# Altium schematic symbol library Altera.SchLib: 9 symbols (part 3 of 3)
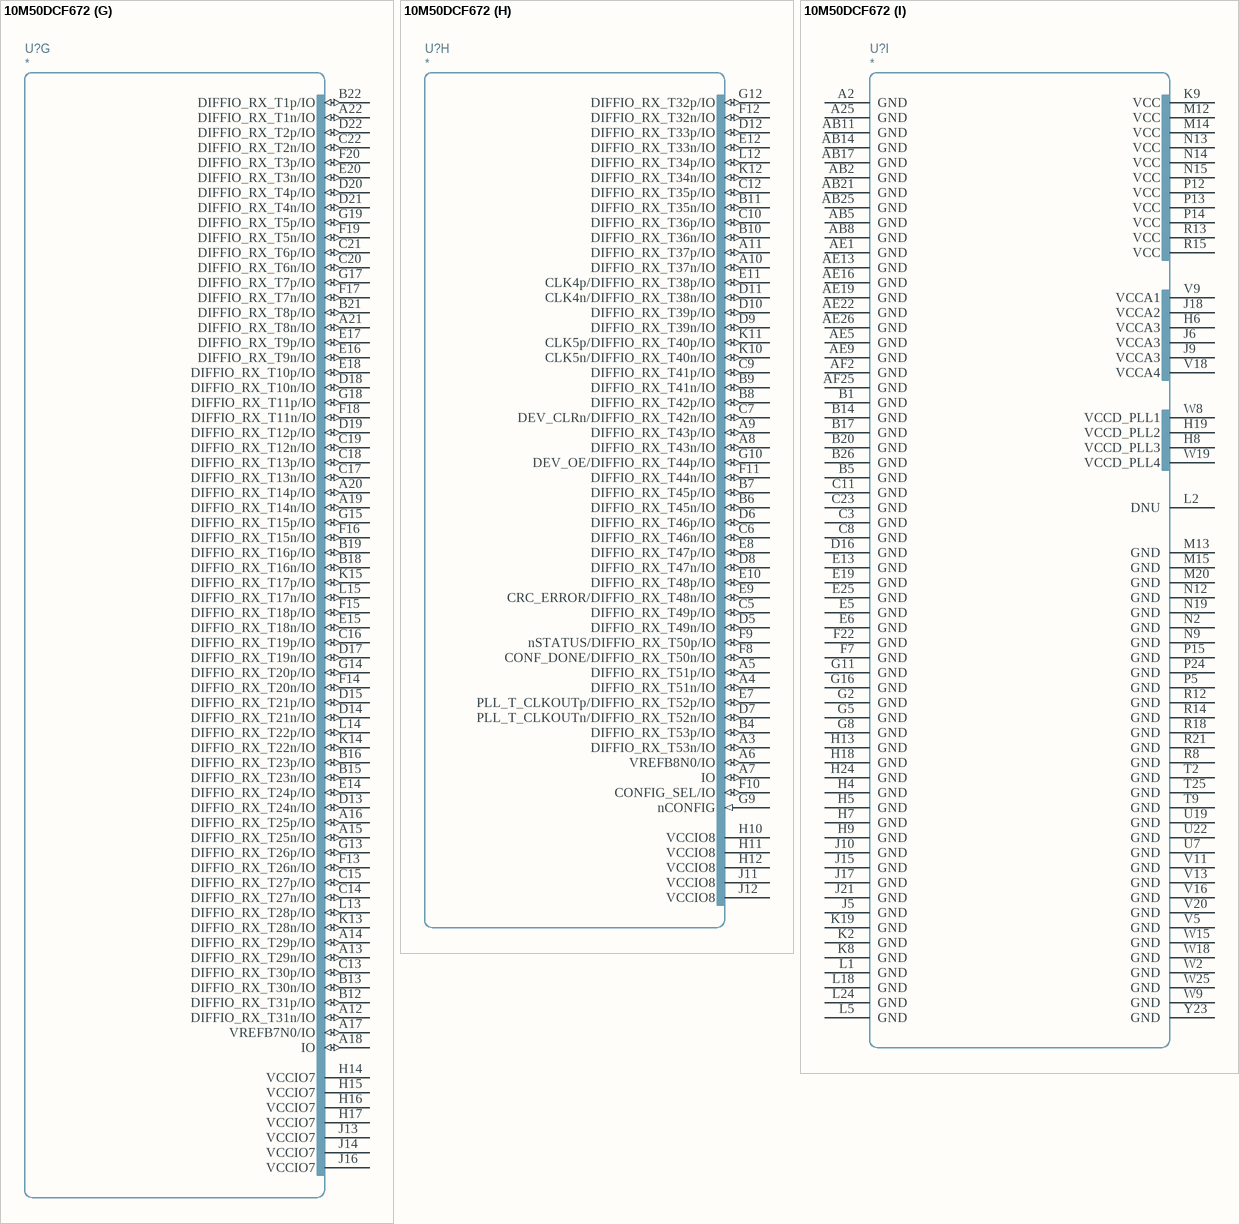
[diagram p15: symbol 10M50DCF672]

## 10M50DCF672
designator U?
part A pins: B2 DIFFIO_RX_L12p/IO (io), B3 DIFFIO_RX_L12n/IO (io), C1 DIFFIO_RX_L19p/IO (io), C2 TMS/DIFFIO_RX_L17n/IO (io), C4 DIFFIO_RX_L10n/IO (io), D1 IO (io), D2 DIFFIO_RX_L19n/IO (io), D3 TCK/DIFFIO_RX_L17p/IO (io), D4 DIFFIO_RX_L10p/IO (io), E1 VREFB1N0/IO (io), E2 DIFFIO_RX_L22n/IO (io), E3 DIFFIO_RX_L11n/IO (io), E4 DIFFIO_RX_L8p/IO (io), F1 DIFFIO_RX_L25p/IO (io), F2 DIFFIO_RX_L22p/IO (io), F3 DIFFIO_RX_L11p/IO (io), F4 DIFFIO_RX_L8n/IO (io), F5 DIFFIO_RX_L6p/IO (io), F6 DIFFIO_RX_L6n/IO (io), G1 DIFFIO_RX_L25n/IO (io), G3 DIFFIO_RX_L5p/IO (io), G4 DIFFIO_RX_L5n/IO (io), G6 DIFFIO_RX_L4p/IO (io), G7 DIFFIO_RX_L4n/IO (io), H1 DIFFIO_RX_L21p/IO (io), H2 DIFFIO_RX_L21n/IO (io), H3 DIFFIO_RX_L14n/IO (io), J1 DIFFIO_RX_L23n/IO (io), J2 DIFFIO_RX_L27n/IO (io), J3 DIFFIO_RX_L27p/IO (io), J4 DIFFIO_RX_L14p/IO (io), J7 DIFFIO_RX_L3n/IO (io), J8 DIFFIO_RX_L3p/IO (io), K1 DIFFIO_RX_L23p/IO (io), K3 DIFFIO_RX_L16n/IO (io), K4 DIFFIO_RX_L7p/IO (io), K5 DIFFIO_RX_L7n/IO (io), K6 DIFFIO_RX_L2n/IO (io), K7 DIFFIO_RX_L1n/IO (io), L3 DIFFIO_RX_L16p/IO (io), L4 DIFFIO_RX_L9p/IO (io), L6 DIFFIO_RX_L2p/IO (io), L7 DIFFIO_RX_L1p/IO (io), L8 VCCIO1A, L9 VCCIO1A, L10 DIFFIO_RX_L15n/IO (io), L11 JTAGEN/DIFFIO_RX_L15p/IO (io), M3 DIFFIO_RX_L24p/IO (io), M4 DIFFIO_RX_L24n/IO (io), M5 DIFFIO_RX_L9n/IO (io), M6 DIFFIO_RX_L13n/IO (io), M7 DIFFIO_RX_L13p/IO (io), M8 VCCIO1B, M9 VCCIO1B, M10 DIFFIO_RX_L20n/IO (io), M11 DIFFIO_RX_L20p/IO (io), N6 TDO/DIFFIO_RX_L18p/IO (io), N7 TDI/DIFFIO_RX_L18n/IO (io), N8 VCCIO1B, N10 DIFFIO_RX_L26n/IO (io), N11 DIFFIO_RX_L26p/IO (io), P8 VCCIO1B
part B pins: AA1 DIFFIO_RX_L49n/IO (io), AA2 DIFFIO_RX_L49p/IO (io), AA3 DIFFIO_RX_L54p/IO (io), AA4 DIFFIO_RX_L51n/IO (io), AA5 DIFFIO_RX_L51p/IO (io), AB1 DIFFIO_RX_L56n/IO (io), AB3 DIFFIO_RX_L60p/IO (io), AB4 DIFFIO_RX_L58p/IO (io), AC1 DIFFIO_RX_L56p/IO (io), AC2 DIFFIO_RX_L60n/IO (io), AC3 DIFFIO_RX_L58n/IO (io), AD1 DIFFIO_RX_L55n/IO (io), AD2 DIFFIO_RX_L55p/IO (io), M1 DIFFIO_RX_L29p/IO (io), M2 DIFFIO_RX_L32n/IO (io), N1 DIFFIO_RX_L29n/IO (io), N3 DIFFIO_RX_L32p/IO (io), N4 DIFFIO_RX_L39p/IO (io), N5 DIFFIO_RX_L39n/IO (io), P1 DIFFIO_RX_L33p/IO (io), P2 DIFFIO_RX_L33n/IO (io), P3 DIFFIO_RX_L35p/IO (io), P4 DIFFIO_RX_L31p/IO (io), P6 CLK0p/DIFFIO_RX_L28p/IO (io), P7 CLK0n/DIFFIO_RX_L28n/IO (io), P9 VCCIO2, P10 DIFFIO_RX_L30p/IO (io), P11 DIFFIO_RX_L30n/IO (io), R1 IO (io), R2 DIFFIO_RX_L37n/IO (io), R3 DIFFIO_RX_L35n/IO (io), R4 DIFFIO_RX_L31n/IO (io), R5 DPCLK1/DIFFIO_RX_L38p/IO (io), R6 DIFFIO_RX_L34n/IO (io), R7 DIFFIO_RX_L34p/IO (io), R9 VCCIO2, R10 CLK1p/DIFFIO_RX_L36p/IO (io), R11 CLK1n/DIFFIO_RX_L36n/IO (io), T1 VREFB2N0/IO (io), T3 DIFFIO_RX_L37p/IO (io), T4 DIFFIO_RX_L45p/IO (io), T5 DIFFIO_RX_L45n/IO (io), T6 DPCLK0/DIFFIO_RX_L38n/IO (io), T7 VCCIO2, T8 VCCIO2, T10 DIFFIO_RX_L41p/IO (io), U1 DIFFIO_RX_L42n/IO (io), U2 DIFFIO_RX_L43n/IO (io), U3 DIFFIO_RX_L40n/IO (io), U4 DIFFIO_RX_L40p/IO (io), U5 DIFFIO_RX_L46p/IO (io), U6 DIFFIO_RX_L46n/IO (io), U8 VCCIO2, U9 VCCIO2, U10 DIFFIO_RX_L41n/IO (io), V1 DIFFIO_RX_L44n/IO (io), V2 DIFFIO_RX_L42p/IO (io), V3 DIFFIO_RX_L43p/IO (io), V4 DIFFIO_RX_L48n/IO (io), V6 DIFFIO_RX_L47p/IO (io), V7 DIFFIO_RX_L47n/IO (io), V8 VCCIO2, W1 DIFFIO_RX_L44p/IO (io), W3 DIFFIO_RX_L48p/IO (io), W4 DIFFIO_RX_L52n/IO (io), W5 DIFFIO_RX_L57p/IO (io), W6 DIFFIO_RX_L53p/IO (io), W7 DIFFIO_RX_L53n/IO (io), Y1 DIFFIO_RX_L50n/IO (io), Y2 DIFFIO_RX_L50p/IO (io), Y3 DIFFIO_RX_L54n/IO (io), Y4 DIFFIO_RX_L52p/IO (io), Y5 DIFFIO_RX_L57n/IO (io), Y6 PLL_L_CLKOUTp/DIFFIO_RX_L59p/IO (io), Y7 PLL_L_CLKOUTn/DIFFIO_RX_L59n/IO (io)
part C pins: AA6 DIFFIO_TX_RX_B3p/IO (io), AA7 DIFFIO_TX_RX_B3n/IO (io), AA8 DIFFIO_TX_RX_B9p/IO (io), AA9 DIFFIO_TX_RX_B9n/IO (io), AA10 DIFFIO_TX_RX_B7p/IO (io), AA11 DIFFIO_TX_RX_B13n/IO (io), AA12 CLK6n/DIFFIO_TX_RX_B18n/IO (io), AB6 DIFFIO_RX_B2n/IO (io), AB7 DIFFIO_TX_RX_B5p/IO (io), AB9 DIFFIO_TX_RX_B16p/IO (io), AB10 DIFFIO_TX_RX_B16n/IO (io), AC4 DIFFIO_RX_B8n/IO (io), AC5 DIFFIO_RX_B2p/IO (io), AC6 DIFFIO_TX_RX_B5n/IO (io), AC7 DIFFIO_RX_B17p/IO (io), AC8 DIFFIO_RX_B17n/IO (io), AC9 DIFFIO_RX_B19p/IO (io), AC10 DIFFIO_TX_RX_B22p/IO (io), AD3 DIFFIO_RX_B4p/IO (io), AD4 DIFFIO_RX_B8p/IO (io), AD5 DIFFIO_RX_B10n/IO (io), AD6 DIFFIO_TX_RX_B11n/IO (io), AD7 DIFFIO_RX_B14n/IO (io), AD8 DIFFIO_RX_B14p/IO (io), AD9 DIFFIO_RX_B19n/IO (io), AD10 DIFFIO_TX_RX_B22n/IO (io), AE2 DIFFIO_RX_B4n/IO (io), AE3 DIFFIO_RX_B6n/IO (io), AE4 DIFFIO_RX_B10p/IO (io), AE6 DIFFIO_TX_RX_B11p/IO (io), AE7 DIFFIO_RX_B21n/IO (io), AE8 DIFFIO_RX_B23n/IO (io), AF3 DIFFIO_RX_B6p/IO (io), AF4 DIFFIO_RX_B12n/IO (io), AF5 DIFFIO_RX_B12p/IO (io), AF6 VREFB3N0/IO (io), AF7 IO (io), AF8 DIFFIO_RX_B21p/IO (io), AF9 DIFFIO_RX_B23p/IO (io), T11 DIFFIO_TX_RX_B15p/IO (io), T12 CLK7p/DIFFIO_TX_RX_B20p/IO (io), U11 DIFFIO_TX_RX_B15n/IO (io), U12 CLK7n/DIFFIO_TX_RX_B20n/IO (io), V10 VCCIO3, V12 VCCIO3, W10 VCCIO3, W11 VCCIO3, W12 VCCIO3, Y8 DIFFIO_TX_RX_B1n/IO (io), Y9 DIFFIO_TX_RX_B1p/IO (io), Y10 DIFFIO_TX_RX_B7n/IO (io), Y11 DIFFIO_TX_RX_B13p/IO (io), Y12 CLK6p/DIFFIO_TX_RX_B18p/IO (io)
part D pins: AA13 DIFFIO_TX_RX_B30n/IO (io), AA14 DIFFIO_TX_RX_B39p/IO (io), AA15 DIFFIO_TX_RX_B45n/IO (io), AA16 DIFFIO_TX_RX_B47n/IO (io), AA17 DIFFIO_TX_RX_B47p/IO (io), AA18 DIFFIO_TX_RX_B41n/IO (io), AB12 DIFFIO_TX_RX_B24n/IO (io), AB13 DIFFIO_TX_RX_B34n/IO (io), AB15 DIFFIO_TX_RX_B45p/IO (io), AB16 DIFFIO_TX_RX_B51n/IO (io), AB18 PLL_B_CLKOUTn/DIFFIO_TX_RX_B57n/IO (io), AB19 PLL_B_CLKOUTp/DIFFIO_TX_RX_B57p/IO (io), AB20 DIFFIO_TX_RX_B55n/IO (io), AC11 DIFFIO_RX_B25p/IO (io), AC12 DIFFIO_TX_RX_B24p/IO (io), AC13 DIFFIO_TX_RX_B34p/IO (io), AC14 DIFFIO_RX_B38p/IO (io), AC15 DIFFIO_RX_B40p/IO (io), AC16 DIFFIO_TX_RX_B51p/IO (io), AC17 DIFFIO_TX_RX_B43p/IO (io), AC18 DIFFIO_RX_B50n/IO (io), AC19 DIFFIO_RX_B50p/IO (io), AC20 DIFFIO_TX_RX_B55p/IO (io), AC21 DIFFIO_RX_B58n/IO (io), AD11 DIFFIO_RX_B25n/IO (io), AD12 DIFFIO_TX_RX_B28p/IO (io), AD13 DIFFIO_TX_RX_B28n/IO (io), AD14 DIFFIO_RX_B38n/IO (io), AD15 DIFFIO_RX_B40n/IO (io), AD16 IO (io), AD17 DIFFIO_TX_RX_B43n/IO (io), AD18 DIFFIO_RX_B46n/IO (io), AD19 DIFFIO_RX_B46p/IO (io), AD20 DIFFIO_RX_B52n/IO (io), AD21 DIFFIO_RX_B52p/IO (io), AD22 DIFFIO_RX_B58p/IO (io), AE10 DIFFIO_RX_B27n/IO (io), AE11 DIFFIO_RX_B29n/IO (io), AE12 DIFFIO_RX_B31n/IO (io), AE14 DIFFIO_RX_B35n/IO (io), AE15 VREFB4N0/IO (io), AE17 DIFFIO_RX_B42p/IO (io), AE18 DIFFIO_RX_B42n/IO (io), AE20 DIFFIO_RX_B48p/IO (io), AE21 DIFFIO_TX_RX_B49p/IO (io), AE23 DIFFIO_RX_B56n/IO (io), AF10 DIFFIO_RX_B27p/IO (io), AF11 DIFFIO_RX_B29p/IO (io), AF12 DIFFIO_RX_B31p/IO (io), AF13 DIFFIO_RX_B33n/IO (io), AF14 DIFFIO_RX_B33p/IO (io), AF15 DIFFIO_RX_B35p/IO (io), AF16 DIFFIO_TX_RX_B37n/IO (io), AF17 DIFFIO_TX_RX_B37p/IO (io), AF18 DIFFIO_RX_B44n/IO (io), AF19 DIFFIO_RX_B44p/IO (io), AF20 DIFFIO_RX_B48n/IO (io), AF21 DIFFIO_TX_RX_B49n/IO (io), AF22 DIFFIO_RX_B54n/IO (io), AF23 DIFFIO_RX_B54p/IO (io), AF24 DIFFIO_RX_B56p/IO (io), T13 DIFFIO_TX_RX_B26p/IO (io), T14 DIFFIO_TX_RX_B32p/IO (io), T15 DIFFIO_TX_RX_B36n/IO (io), U13 DIFFIO_TX_RX_B26n/IO (io), U14 DIFFIO_TX_RX_B32n/IO (io), U15 DIFFIO_TX_RX_B36p/IO (io), V14 VCCIO4, V15 VCCIO4, V17 VCCIO4, W13 VCCIO4, W14 VCCIO4, W16 VCCIO4, W17 VCCIO4, Y13 DIFFIO_TX_RX_B30p/IO (io), Y14 DIFFIO_TX_RX_B39n/IO (io), Y15 VCCIO4, Y16 DIFFIO_TX_RX_B53p/IO (io), Y17 DIFFIO_TX_RX_B53n/IO (io), Y18 DIFFIO_TX_RX_B41p/IO (io)
part E pins: AA19 RUP/DIFFIO_RX_R1p/IO (io), AA20 RDN/DIFFIO_RX_R1n/IO (io), AA21 DIFFIO_RX_R3p/IO (io), AA22 DIFFIO_RX_R10p/IO (io), AA23 DIFFIO_RX_R10n/IO (io), AA24 DIFFIO_RX_R11p/IO (io), AA25 DIFFIO_RX_R18p/IO (io), AA26 DIFFIO_RX_R20p/IO (io), AB22 DIFFIO_RX_R3n/IO (io), AB23 DIFFIO_RX_R8p/IO (io), AB24 DIFFIO_RX_R11n/IO (io), AB26 DIFFIO_RX_R18n/IO (io), AC22 DIFFIO_RX_R4n/IO (io), AC23 DIFFIO_RX_R4p/IO (io), AC24 DIFFIO_RX_R8n/IO (io), AC25 DIFFIO_RX_R14p/IO (io), AC26 DIFFIO_RX_R14n/IO (io), AD23 DIFFIO_RX_R5p/IO (io), AD24 DIFFIO_RX_R5n/IO (io), AD25 DIFFIO_RX_R12p/IO (io), AD26 DIFFIO_RX_R12n/IO (io), AE24 DIFFIO_RX_R6p/IO (io), AE25 DIFFIO_RX_R6n/IO (io), P16 DQ1R/DIFFIO_RX_R30n/IO (io), P17 DQ1R/DIFFIO_RX_R30p/IO (io), P18 VCCIO5, P19 VCCIO5, P20 DQS1R/DIFFIO_RX_R32p/IO (io), P21 DQSn1R/DIFFIO_RX_R32n/IO (io), P22 DQ1R/DIFFIO_RX_R33p/IO (io), P23 DQ1R/DIFFIO_RX_R33n/IO (io), P25 DIFFIO_RX_R34n/IO (io), P26 DIFFIO_RX_R35n/IO (io), R16 DQ1R/DIFFIO_RX_R25p/IO (io), R17 DQ1R/DIFFIO_RX_R25n/IO (io), R19 VCCIO5, R20 DM1R/DIFFIO_RX_R27n/IO (io), R22 DQ1R/DIFFIO_RX_R28p/IO (io), R23 DQ1R/DIFFIO_RX_R28n/IO (io), R24 DIFFIO_RX_R34p/IO (io), R25 DIFFIO_RX_R29n/IO (io), R26 DIFFIO_RX_R35p/IO (io), T16 DQ0R/DIFFIO_RX_R19n/IO (io), T17 DQ0R/DIFFIO_RX_R19p/IO (io), T18 VCCIO5, T19 VCCIO5, T20 DQ1R/DIFFIO_RX_R27p/IO (io), T21 DQS0R/DIFFIO_RX_R21p/IO (io), T22 DQSn0R/DIFFIO_RX_R21n/IO (io), T23 DQ0R/DIFFIO_RX_R22n/IO (io), T24 DIFFIO_RX_R29p/IO (io), T26 DIFFIO_RX_R31n/IO (io), U16 DQ0R/DIFFIO_RX_R13p/IO (io), U17 DQ0R/DIFFIO_RX_R13n/IO (io), U18 VCCIO5, U20 VCCIO5, U21 DM0R/DIFFIO_RX_R15n/IO (io), U23 DQ0R/DIFFIO_RX_R22p/IO (io), U24 DIFFIO_RX_R23p/IO (io), U25 DIFFIO_RX_R23n/IO (io), U26 DIFFIO_RX_R31p/IO (io), V19 VCCIO5, V21 DQ0R/DIFFIO_RX_R15p/IO (io), V22 DQ0R/DIFFIO_RX_R16p/IO (io), V23 DQ0R/DIFFIO_RX_R16n/IO (io), V24 DIFFIO_RX_R26p/IO (io), V25 DIFFIO_RX_R26n/IO (io), V26 VREFB5N0/IO (io), W20 VCCIO5, W21 DIFFIO_RX_R9n/IO (io), W22 DIFFIO_RX_R2n/IO (io), W23 DIFFIO_RX_R17p/IO (io), W24 DIFFIO_RX_R17n/IO (io), W26 IO (io), Y19 DIFFIO_RX_R7p/IO (io), Y20 DIFFIO_RX_R7n/IO (io), Y21 DIFFIO_RX_R9p/IO (io), Y22 DIFFIO_RX_R2p/IO (io), Y24 DIFFIO_RX_R24p/IO (io), Y25 DIFFIO_RX_R24n/IO (io), Y26 DIFFIO_RX_R20n/IO (io)
part F pins: A23 DIFFIO_RX_R68n/IO (io), A24 DIFFIO_RX_R66n/IO (io), B23 DIFFIO_RX_R68p/IO (io), B24 DIFFIO_RX_R66p/IO (io), B25 DIFFIO_RX_R62n/IO (io), C24 DIFFIO_RX_R62p/IO (io), C25 DIFFIO_RX_R54n/IO (io), C26 DIFFIO_RX_R49n/IO (io), D23 CK_6/DIFFIO_RX_R70p/IO (io), D24 DIFFIO_RX_R60p/IO (io), D25 DIFFIO_RX_R54p/IO (io), D26 DIFFIO_RX_R49p/IO (io), E21 PLL_R_CLKOUTn/DIFFIO_RX_R69n/IO (io), E22 PLL_R_CLKOUTp/DIFFIO_RX_R69p/IO (io), E23 CK#_6/DIFFIO_RX_R70n/IO (io), E24 DIFFIO_RX_R60n/IO (io), E26 DIFFIO_RX_R43n/IO (io), F21 DIFFIO_RX_R67n/IO (io), F23 DIFFIO_RX_R59n/IO (io), F24 DIFFIO_RX_R56n/IO (io), F25 IO (io), F26 DIFFIO_RX_R43p/IO (io), G20 DIFFIO_RX_R67p/IO (io), G21 DIFFIO_RX_R65p/IO (io), G22 DIFFIO_RX_R65n/IO (io), G23 DIFFIO_RX_R59p/IO (io), G24 DIFFIO_RX_R56p/IO (io), G25 VREFB6N0/IO (io), G26 DIFFIO_RX_R39n/IO (io), H20 DQ3R/DIFFIO_RX_R63n/IO (io), H21 DQ3R/DIFFIO_RX_R64p/IO (io), H22 DQ3R/DIFFIO_RX_R64n/IO (io), H23 DIFFIO_RX_R53n/IO (io), H25 DIFFIO_RX_R45p/IO (io), H26 DIFFIO_RX_R39p/IO (io), J19 VCCIO6, J20 DQ3R/DIFFIO_RX_R63p/IO (io), J22 DQ3R/DIFFIO_RX_R58n/IO (io), J23 DIFFIO_RX_R53p/IO (io), J24 DIFFIO_RX_R45n/IO (io), J25 DIFFIO_RX_R42n/IO (io), J26 DIFFIO_RX_R37n/IO (io), K16 DQ3R/DIFFIO_RX_R61p/IO (io), K17 DM3R/DIFFIO_RX_R61n/IO (io), K18 VCCIO6, K20 VCCIO6, K21 DQ3R/DIFFIO_RX_R57n/IO (io), K22 DQ3R/DIFFIO_RX_R58p/IO (io), K23 DIFFIO_RX_R48n/IO (io), K24 DIFFIO_RX_R48p/IO (io), K25 DIFFIO_RX_R42p/IO (io), K26 DIFFIO_RX_R37p/IO (io), L16 DQS3R/DIFFIO_RX_R55p/IO (io), L17 DQSn3R/DIFFIO_RX_R55n/IO (io), L19 VCCIO6, L20 VCCIO6, L21 DQ3R/DIFFIO_RX_R57p/IO (io), L22 DQ2R/DIFFIO_RX_R52p/IO (io), L23 DQ2R/DIFFIO_RX_R52n/IO (io), L25 DIFFIO_RX_R41p/IO (io), L26 DIFFIO_RX_R41n/IO (io), M16 DPCLK2/DQSn2R/DIFFIO_RX_R50n/IO (io), M17 DPCLK3/DQS2R/DIFFIO_RX_R50p/IO (io), M18 VCCIO6, M19 VCCIO6, M21 DQ2R/DIFFIO_RX_R51n/IO (io), M22 DQ2R/DIFFIO_RX_R51p/IO (io), M23 DQ2R/DIFFIO_RX_R47n/IO (io), M24 CLK3n/DIFFIO_RX_R40n/IO (io), M25 CLK3p/DIFFIO_RX_R40p/IO (io), M26 DIFFIO_RX_R36n/IO (io), N16 DQ2R/DIFFIO_RX_R44n/IO (io), N17 DQ2R/DIFFIO_RX_R44p/IO (io), N18 VCCIO6, N20 VCCIO6, N21 DQ2R/DIFFIO_RX_R46p/IO (io), N22 DM2R/DIFFIO_RX_R46n/IO (io), N23 DQ2R/DIFFIO_RX_R47p/IO (io), N24 CLK2p/DIFFIO_RX_R38p/IO (io), N25 CLK2n/DIFFIO_RX_R38n/IO (io), N26 DIFFIO_RX_R36p/IO (io)
part G pins: A12 DIFFIO_RX_T31n/IO (io), A13 DIFFIO_RX_T29n/IO (io), A14 DIFFIO_RX_T29p/IO (io), A15 DIFFIO_RX_T25n/IO (io), A16 DIFFIO_RX_T25p/IO (io), A17 VREFB7N0/IO (io), A18 IO (io), A19 DIFFIO_RX_T14n/IO (io), A20 DIFFIO_RX_T14p/IO (io), A21 DIFFIO_RX_T8n/IO (io), A22 DIFFIO_RX_T1n/IO (io), B12 DIFFIO_RX_T31p/IO (io), B13 DIFFIO_RX_T30n/IO (io), B15 DIFFIO_RX_T23n/IO (io), B16 DIFFIO_RX_T23p/IO (io), B18 DIFFIO_RX_T16n/IO (io), B19 DIFFIO_RX_T16p/IO (io), B21 DIFFIO_RX_T8p/IO (io), B22 DIFFIO_RX_T1p/IO (io), C13 DIFFIO_RX_T30p/IO (io), C14 DIFFIO_RX_T27n/IO (io), C15 DIFFIO_RX_T27p/IO (io), C16 DIFFIO_RX_T19p/IO (io), C17 DIFFIO_RX_T13n/IO (io), C18 DIFFIO_RX_T13p/IO (io), C19 DIFFIO_RX_T12n/IO (io), C20 DIFFIO_RX_T6n/IO (io), C21 DIFFIO_RX_T6p/IO (io), C22 DIFFIO_RX_T2n/IO (io), D13 DIFFIO_RX_T24n/IO (io), D14 DIFFIO_RX_T21n/IO (io), D15 DIFFIO_RX_T21p/IO (io), D17 DIFFIO_RX_T19n/IO (io), D18 DIFFIO_RX_T10n/IO (io), D19 DIFFIO_RX_T12p/IO (io), D20 DIFFIO_RX_T4p/IO (io), D21 DIFFIO_RX_T4n/IO (io), D22 DIFFIO_RX_T2p/IO (io), E14 DIFFIO_RX_T24p/IO (io), E15 DIFFIO_RX_T18n/IO (io), E16 DIFFIO_RX_T9n/IO (io), E17 DIFFIO_RX_T9p/IO (io), E18 DIFFIO_RX_T10p/IO (io), E20 DIFFIO_RX_T3n/IO (io), F13 DIFFIO_RX_T26n/IO (io), F14 DIFFIO_RX_T20n/IO (io), F15 DIFFIO_RX_T18p/IO (io), F16 DIFFIO_RX_T15n/IO (io), F17 DIFFIO_RX_T7n/IO (io), F18 DIFFIO_RX_T11n/IO (io), F19 DIFFIO_RX_T5n/IO (io), F20 DIFFIO_RX_T3p/IO (io), G13 DIFFIO_RX_T26p/IO (io), G14 DIFFIO_RX_T20p/IO (io), G15 DIFFIO_RX_T15p/IO (io), G17 DIFFIO_RX_T7p/IO (io), G18 DIFFIO_RX_T11p/IO (io), G19 DIFFIO_RX_T5p/IO (io), H14 VCCIO7, H15 VCCIO7, H16 VCCIO7, H17 VCCIO7, J13 VCCIO7, J14 VCCIO7, J16 VCCIO7, K13 DIFFIO_RX_T28n/IO (io), K14 DIFFIO_RX_T22n/IO (io), K15 DIFFIO_RX_T17p/IO (io), L13 DIFFIO_RX_T28p/IO (io), L14 DIFFIO_RX_T22p/IO (io), L15 DIFFIO_RX_T17n/IO (io)
part H pins: A3 DIFFIO_RX_T53n/IO (io), A4 DIFFIO_RX_T51n/IO (io), A5 DIFFIO_RX_T51p/IO (io), A6 VREFB8N0/IO (io), A7 IO (io), A8 DIFFIO_RX_T43n/IO (io), A9 DIFFIO_RX_T43p/IO (io), A10 DIFFIO_RX_T37n/IO (io), A11 DIFFIO_RX_T37p/IO (io), B4 DIFFIO_RX_T53p/IO (io), B6 DIFFIO_RX_T45n/IO (io), B7 DIFFIO_RX_T45p/IO (io), B8 DIFFIO_RX_T42p/IO (io), B9 DIFFIO_RX_T41n/IO (io), B10 DIFFIO_RX_T36n/IO (io), B11 DIFFIO_RX_T35n/IO (io), C5 DIFFIO_RX_T49p/IO (io), C6 DIFFIO_RX_T46n/IO (io), C7 DEV_CLRn/DIFFIO_RX_T42n/IO (io), C9 DIFFIO_RX_T41p/IO (io), C10 DIFFIO_RX_T36p/IO (io), C12 DIFFIO_RX_T35p/IO (io), D5 DIFFIO_RX_T49n/IO (io), D6 DIFFIO_RX_T46p/IO (io), D7 PLL_T_CLKOUTn/DIFFIO_RX_T52n/IO (io), D8 DIFFIO_RX_T47n/IO (io), D9 DIFFIO_RX_T39n/IO (io), D10 DIFFIO_RX_T39p/IO (io), D11 CLK4n/DIFFIO_RX_T38n/IO (io), D12 DIFFIO_RX_T33p/IO (io), E7 PLL_T_CLKOUTp/DIFFIO_RX_T52p/IO (io), E8 DIFFIO_RX_T47p/IO (io), E9 CRC_ERROR/DIFFIO_RX_T48n/IO (io), E10 DIFFIO_RX_T48p/IO (io), E11 CLK4p/DIFFIO_RX_T38p/IO (io), E12 DIFFIO_RX_T33n/IO (io), F8 CONF_DONE/DIFFIO_RX_T50n/IO (io), F9 nSTATUS/DIFFIO_RX_T50p/IO (io), F10 CONFIG_SEL/IO (io), F11 DIFFIO_RX_T44n/IO (io), F12 DIFFIO_RX_T32n/IO (io), G9 nCONFIG (in), G10 DEV_OE/DIFFIO_RX_T44p/IO (io), G12 DIFFIO_RX_T32p/IO (io), H10 VCCIO8, H11 VCCIO8, H12 VCCIO8, J11 VCCIO8, J12 VCCIO8, K10 CLK5n/DIFFIO_RX_T40n/IO (io), K11 CLK5p/DIFFIO_RX_T40p/IO (io), K12 DIFFIO_RX_T34n/IO (io), L12 DIFFIO_RX_T34p/IO (io)
part I pins: A2 GND, A25 GND, AB2 GND, AB5 GND, AB8 GND, AB11 GND, AB14 GND, AB17 GND, AB21 GND, AB25 GND, AE1 GND, AE5 GND, AE9 GND, AE13 GND, AE16 GND, AE19 GND, AE22 GND, AE26 GND, AF2 GND, AF25 GND, B1 GND, B5 GND, B14 GND, B17 GND, B20 GND, B26 GND, C3 GND, C8 GND, C11 GND, C23 GND, D16 GND, E5 GND, E6 GND, E13 GND, E19 GND, E25 GND, F7 GND, F22 GND, G2 GND, G5 GND, G8 GND, G11 GND, G16 GND, H4 GND, H5 GND, H6 VCCA3, H7 GND, H8 VCCD_PLL3, H9 GND, H13 GND, H18 GND, H19 VCCD_PLL2, H24 GND, J5 GND, J6 VCCA3, J9 VCCA3, J10 GND, J15 GND, J17 GND, J18 VCCA2, J21 GND, K2 GND, K8 GND, K9 VCC, K19 GND, L1 GND, L2 DNU, L5 GND, L18 GND, L24 GND, M12 VCC, M13 GND, M14 VCC, M15 GND, M20 GND, N2 GND, N9 GND, N12 GND, N13 VCC, N14 VCC, N15 VCC, N19 GND, P5 GND, P12 VCC, P13 VCC, P14 VCC, P15 GND, P24 GND, R8 GND, R12 GND, R13 VCC, R14 GND, R15 VCC, R18 GND, R21 GND, T2 GND, T9 GND, T25 GND, U7 GND, U19 GND, U22 GND, V5 GND, V9 VCCA1, V11 GND, V13 GND, V16 GND, V18 VCCA4, V20 GND, W2 GND, W8 VCCD_PLL1, W9 GND, W15 GND, W18 GND, W19 VCCD_PLL4, W25 GND, Y23 GND

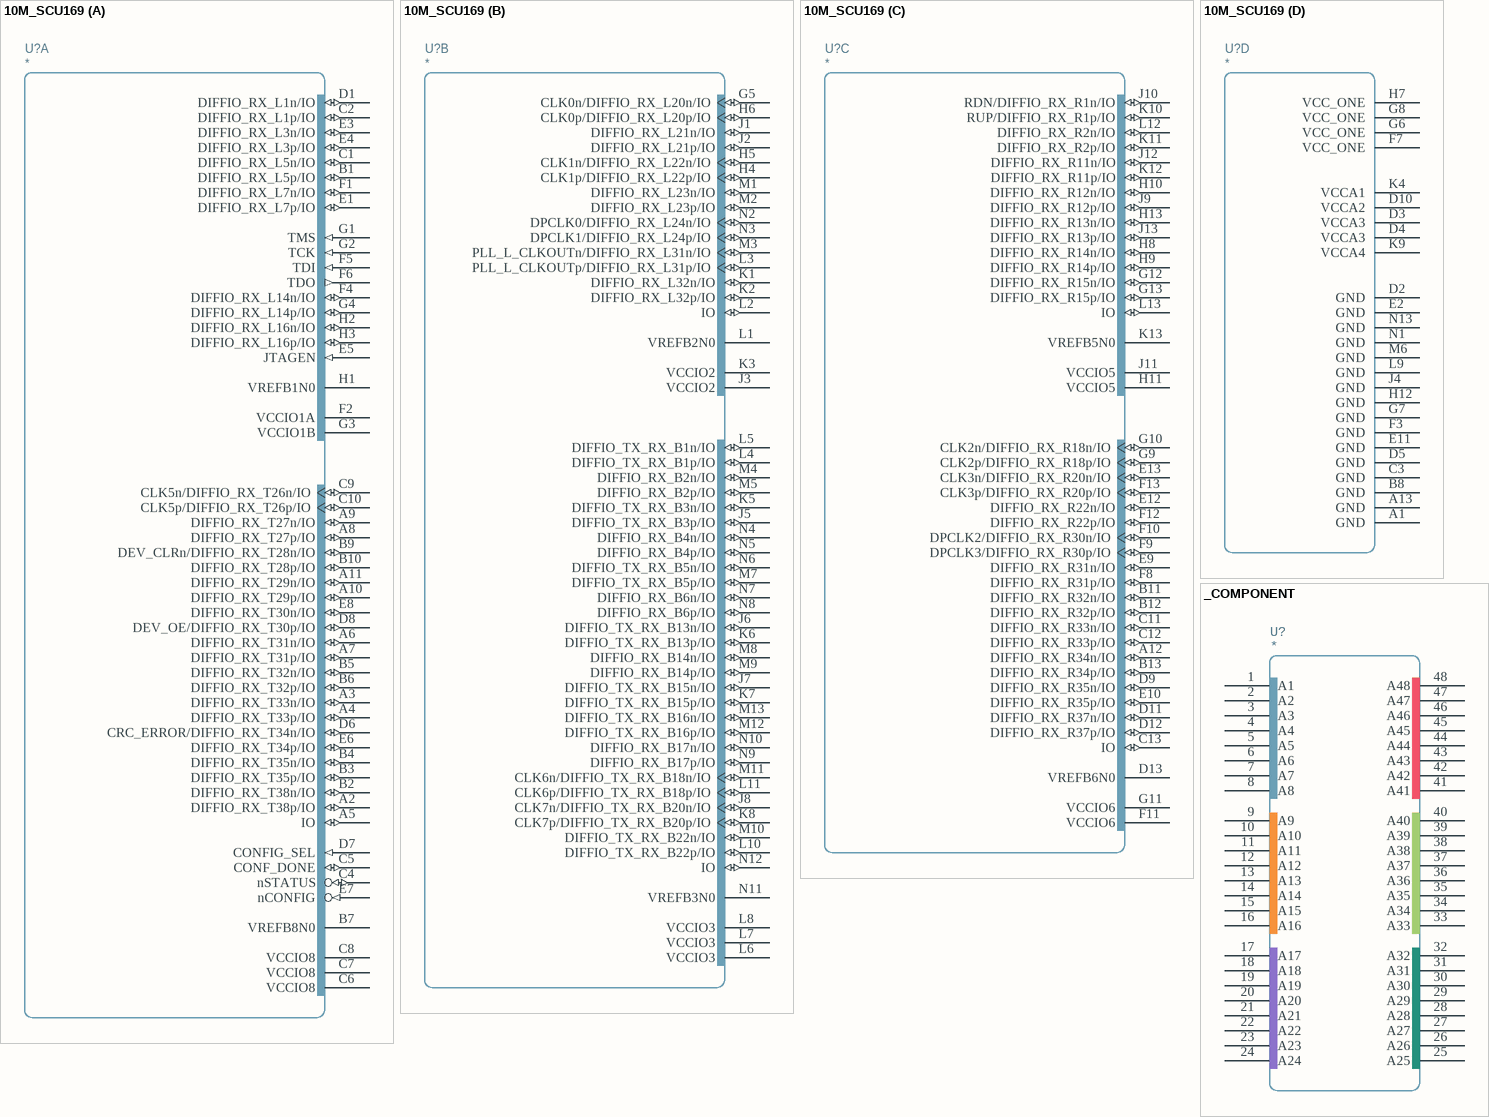
[diagram p12: symbols 10M_SCU169 to _COMPONENT]

## 10M_SCU169
designator U?
part A pins: A2 DIFFIO_RX_T38p/IO (io), A3 DIFFIO_RX_T33n/IO (io), A4 DIFFIO_RX_T33p/IO (io), A5 IO (io), A6 DIFFIO_RX_T31n/IO (io), A7 DIFFIO_RX_T31p/IO (io), A8 DIFFIO_RX_T27p/IO (io), A9 DIFFIO_RX_T27n/IO (io), A10 DIFFIO_RX_T29p/IO (io), A11 DIFFIO_RX_T29n/IO (io), B1 DIFFIO_RX_L5p/IO (io), B2 DIFFIO_RX_T38n/IO (io), B3 DIFFIO_RX_T35p/IO (io), B4 DIFFIO_RX_T35n/IO (io), B5 DIFFIO_RX_T32n/IO (io), B6 DIFFIO_RX_T32p/IO (io), B7 VREFB8N0, B9 DEV_CLRn/DIFFIO_RX_T28n/IO (io), B10 DIFFIO_RX_T28p/IO (io), C1 DIFFIO_RX_L5n/IO (io), C2 DIFFIO_RX_L1p/IO (io), C4 nSTATUS (io), C5 CONF_DONE (io), C6 VCCIO8, C7 VCCIO8, C8 VCCIO8, C9 CLK5n/DIFFIO_RX_T26n/IO (io), C10 CLK5p/DIFFIO_RX_T26p/IO (io), D1 DIFFIO_RX_L1n/IO (io), D6 CRC_ERROR/DIFFIO_RX_T34n/IO (io), D7 CONFIG_SEL (in), D8 DEV_OE/DIFFIO_RX_T30p/IO (io), E1 DIFFIO_RX_L7p/IO (io), E3 DIFFIO_RX_L3n/IO (io), E4 DIFFIO_RX_L3p/IO (io), E5 JTAGEN (in), E6 DIFFIO_RX_T34p/IO (io), E7 nCONFIG (in), E8 DIFFIO_RX_T30n/IO (io), F1 DIFFIO_RX_L7n/IO (io), F2 VCCIO1A, F4 DIFFIO_RX_L14n/IO (io), F5 TDI (in), F6 TDO (out), G1 TMS (in), G2 TCK (in), G3 VCCIO1B, G4 DIFFIO_RX_L14p/IO (io), H1 VREFB1N0, H2 DIFFIO_RX_L16n/IO (io), H3 DIFFIO_RX_L16p/IO (io)
part B pins: G5 CLK0n/DIFFIO_RX_L20n/IO (io), H4 CLK1p/DIFFIO_RX_L22p/IO (io), H5 CLK1n/DIFFIO_RX_L22n/IO (io), H6 CLK0p/DIFFIO_RX_L20p/IO (io), J1 DIFFIO_RX_L21n/IO (io), J2 DIFFIO_RX_L21p/IO (io), J3 VCCIO2, J5 DIFFIO_TX_RX_B3p/IO (io), J6 DIFFIO_TX_RX_B13n/IO (io), J7 DIFFIO_TX_RX_B15n/IO (io), J8 CLK7n/DIFFIO_TX_RX_B20n/IO (io), K1 DIFFIO_RX_L32n/IO (io), K2 DIFFIO_RX_L32p/IO (io), K3 VCCIO2, K5 DIFFIO_TX_RX_B3n/IO (io), K6 DIFFIO_TX_RX_B13p/IO (io), K7 DIFFIO_TX_RX_B15p/IO (io), K8 CLK7p/DIFFIO_TX_RX_B20p/IO (io), L1 VREFB2N0, L2 IO (io), L3 PLL_L_CLKOUTp/DIFFIO_RX_L31p/IO (io), L4 DIFFIO_TX_RX_B1p/IO (io), L5 DIFFIO_TX_RX_B1n/IO (io), L6 VCCIO3, L7 VCCIO3, L8 VCCIO3, L10 DIFFIO_TX_RX_B22p/IO (io), L11 CLK6p/DIFFIO_TX_RX_B18p/IO (io), M1 DIFFIO_RX_L23n/IO (io), M2 DIFFIO_RX_L23p/IO (io), M3 PLL_L_CLKOUTn/DIFFIO_RX_L31n/IO (io), M4 DIFFIO_RX_B2n/IO (io), M5 DIFFIO_RX_B2p/IO (io), M7 DIFFIO_TX_RX_B5p/IO (io), M8 DIFFIO_RX_B14n/IO (io), M9 DIFFIO_RX_B14p/IO (io), M10 DIFFIO_TX_RX_B22n/IO (io), M11 CLK6n/DIFFIO_TX_RX_B18n/IO (io), M12 DIFFIO_TX_RX_B16p/IO (io), M13 DIFFIO_TX_RX_B16n/IO (io), N2 DPCLK0/DIFFIO_RX_L24n/IO (io), N3 DPCLK1/DIFFIO_RX_L24p/IO (io), N4 DIFFIO_RX_B4n/IO (io), N5 DIFFIO_RX_B4p/IO (io), N6 DIFFIO_TX_RX_B5n/IO (io), N7 DIFFIO_RX_B6n/IO (io), N8 DIFFIO_RX_B6p/IO (io), N9 DIFFIO_RX_B17p/IO (io), N10 DIFFIO_RX_B17n/IO (io), N11 VREFB3N0, N12 IO (io)
part C pins: A12 DIFFIO_RX_R34n/IO (io), B11 DIFFIO_RX_R32n/IO (io), B12 DIFFIO_RX_R32p/IO (io), B13 DIFFIO_RX_R34p/IO (io), C11 DIFFIO_RX_R33n/IO (io), C12 DIFFIO_RX_R33p/IO (io), C13 IO (io), D9 DIFFIO_RX_R35n/IO (io), D11 DIFFIO_RX_R37n/IO (io), D12 DIFFIO_RX_R37p/IO (io), D13 VREFB6N0, E9 DIFFIO_RX_R31n/IO (io), E10 DIFFIO_RX_R35p/IO (io), E12 DIFFIO_RX_R22n/IO (io), E13 CLK3n/DIFFIO_RX_R20n/IO (io), F8 DIFFIO_RX_R31p/IO (io), F9 DPCLK3/DIFFIO_RX_R30p/IO (io), F10 DPCLK2/DIFFIO_RX_R30n/IO (io), F11 VCCIO6, F12 DIFFIO_RX_R22p/IO (io), F13 CLK3p/DIFFIO_RX_R20p/IO (io), G9 CLK2p/DIFFIO_RX_R18p/IO (io), G10 CLK2n/DIFFIO_RX_R18n/IO (io), G11 VCCIO6, G12 DIFFIO_RX_R15n/IO (io), G13 DIFFIO_RX_R15p/IO (io), H8 DIFFIO_RX_R14n/IO (io), H9 DIFFIO_RX_R14p/IO (io), H10 DIFFIO_RX_R12n/IO (io), H11 VCCIO5, H13 DIFFIO_RX_R13n/IO (io), J9 DIFFIO_RX_R12p/IO (io), J10 RDN/DIFFIO_RX_R1n/IO (io), J11 VCCIO5, J12 DIFFIO_RX_R11n/IO (io), J13 DIFFIO_RX_R13p/IO (io), K10 RUP/DIFFIO_RX_R1p/IO (io), K11 DIFFIO_RX_R2p/IO (io), K12 DIFFIO_RX_R11p/IO (io), K13 VREFB5N0, L12 DIFFIO_RX_R2n/IO (io), L13 IO (io)
part D pins: A1 GND, A13 GND, B8 GND, C3 GND, D2 GND, D3 VCCA3, D4 VCCA3, D5 GND, D10 VCCA2, E2 GND, E11 GND, F3 GND, F7 VCC_ONE, G6 VCC_ONE, G7 GND, G8 VCC_ONE, H7 VCC_ONE, H12 GND, J4 GND, K4 VCCA1, K9 VCCA4, L9 GND, M6 GND, N1 GND, N13 GND

## _COMPONENT
designator U?
pins: 1 A1, 2 A2, 3 A3, 4 A4, 5 A5, 6 A6, 7 A7, 8 A8, 9 A9, 10 A10, 11 A11, 12 A12, 13 A13, 14 A14, 15 A15, 16 A16, 17 A17, 18 A18, 19 A19, 20 A20, 21 A21, 22 A22, 23 A23, 24 A24, 25 A25, 26 A26, 27 A27, 28 A28, 29 A29, 30 A30, 31 A31, 32 A32, 33 A33, 34 A34, 35 A35, 36 A36, 37 A37, 38 A38, 39 A39, 40 A40, 41 A41, 42 A42, 43 A43, 44 A44, 45 A45, 46 A46, 47 A47, 48 A48

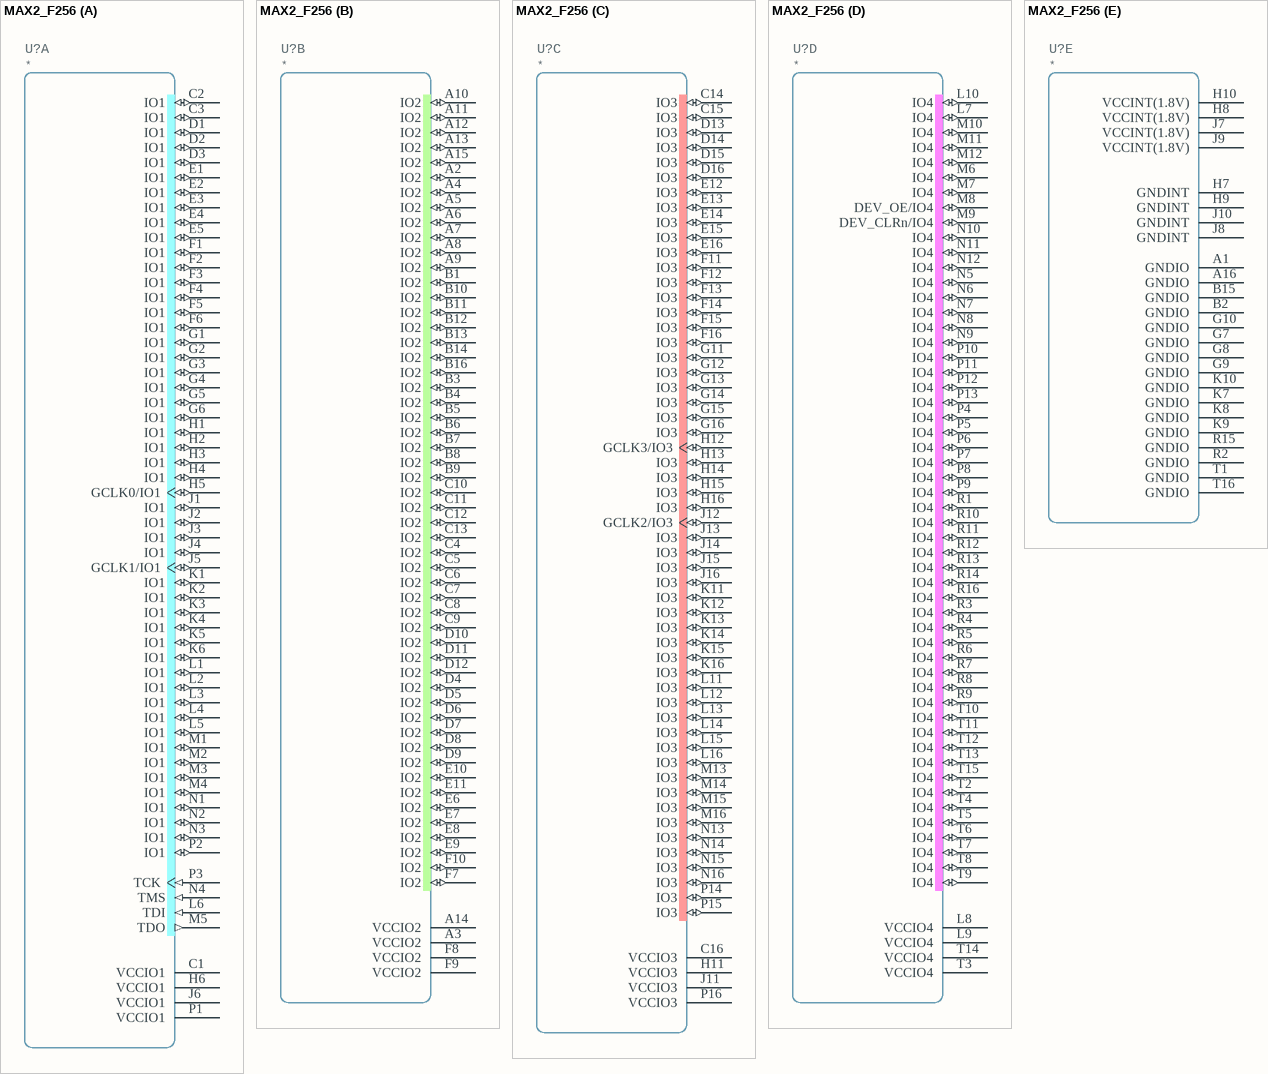
[diagram p13: symbol MAX2_F256]

## MAX2_F256
designator U?
part A pins: C1 VCCIO1, C2 IO1 (io), C3 IO1 (io), D1 IO1 (io), D2 IO1 (io), D3 IO1 (io), E1 IO1 (io), E2 IO1 (io), E3 IO1 (io), E4 IO1 (io), E5 IO1 (io), F1 IO1 (io), F2 IO1 (io), F3 IO1 (io), F4 IO1 (io), F5 IO1 (io), F6 IO1 (io), G1 IO1 (io), G2 IO1 (io), G3 IO1 (io), G4 IO1 (io), G5 IO1 (io), G6 IO1 (io), H1 IO1 (io), H2 IO1 (io), H3 IO1 (io), H4 IO1 (io), H5 GCLK0/IO1 (io), H6 VCCIO1, J1 IO1 (io), J2 IO1 (io), J3 IO1 (io), J4 IO1 (io), J5 GCLK1/IO1 (io), J6 VCCIO1, K1 IO1 (io), K2 IO1 (io), K3 IO1 (io), K4 IO1 (io), K5 IO1 (io), K6 IO1 (io), L1 IO1 (io), L2 IO1 (io), L3 IO1 (io), L4 IO1 (io), L5 IO1 (io), L6 TDI (in), M1 IO1 (io), M2 IO1 (io), M3 IO1 (io), M4 IO1 (io), M5 TDO (out), N1 IO1 (io), N2 IO1 (io), N3 IO1 (io), N4 TMS (in), P1 VCCIO1, P2 IO1 (io), P3 TCK (in)
part B pins: A2 IO2 (io), A3 VCCIO2, A4 IO2 (io), A5 IO2 (io), A6 IO2 (io), A7 IO2 (io), A8 IO2 (io), A9 IO2 (io), A10 IO2 (io), A11 IO2 (io), A12 IO2 (io), A13 IO2 (io), A14 VCCIO2, A15 IO2 (io), B1 IO2 (io), B3 IO2 (io), B4 IO2 (io), B5 IO2 (io), B6 IO2 (io), B7 IO2 (io), B8 IO2 (io), B9 IO2 (io), B10 IO2 (io), B11 IO2 (io), B12 IO2 (io), B13 IO2 (io), B14 IO2 (io), B16 IO2 (io), C4 IO2 (io), C5 IO2 (io), C6 IO2 (io), C7 IO2 (io), C8 IO2 (io), C9 IO2 (io), C10 IO2 (io), C11 IO2 (io), C12 IO2 (io), C13 IO2 (io), D4 IO2 (io), D5 IO2 (io), D6 IO2 (io), D7 IO2 (io), D8 IO2 (io), D9 IO2 (io), D10 IO2 (io), D11 IO2 (io), D12 IO2 (io), E6 IO2 (io), E7 IO2 (io), E8 IO2 (io), E9 IO2 (io), E10 IO2 (io), E11 IO2 (io), F7 IO2 (io), F8 VCCIO2, F9 VCCIO2, F10 IO2 (io)
part C pins: C14 IO3 (io), C15 IO3 (io), C16 VCCIO3, D13 IO3 (io), D14 IO3 (io), D15 IO3 (io), D16 IO3 (io), E12 IO3 (io), E13 IO3 (io), E14 IO3 (io), E15 IO3 (io), E16 IO3 (io), F11 IO3 (io), F12 IO3 (io), F13 IO3 (io), F14 IO3 (io), F15 IO3 (io), F16 IO3 (io), G11 IO3 (io), G12 IO3 (io), G13 IO3 (io), G14 IO3 (io), G15 IO3 (io), G16 IO3 (io), H11 VCCIO3, H12 GCLK3/IO3 (io), H13 IO3 (io), H14 IO3 (io), H15 IO3 (io), H16 IO3 (io), J11 VCCIO3, J12 GCLK2/IO3 (io), J13 IO3 (io), J14 IO3 (io), J15 IO3 (io), J16 IO3 (io), K11 IO3 (io), K12 IO3 (io), K13 IO3 (io), K14 IO3 (io), K15 IO3 (io), K16 IO3 (io), L11 IO3 (io), L12 IO3 (io), L13 IO3 (io), L14 IO3 (io), L15 IO3 (io), L16 IO3 (io), M13 IO3 (io), M14 IO3 (io), M15 IO3 (io), M16 IO3 (io), N13 IO3 (io), N14 IO3 (io), N15 IO3 (io), N16 IO3 (io), P14 IO3 (io), P15 IO3 (io), P16 VCCIO3
part D pins: L7 IO4 (io), L8 VCCIO4, L9 VCCIO4, L10 IO4 (io), M6 IO4 (io), M7 IO4 (io), M8 DEV_OE/IO4 (io), M9 DEV_CLRn/IO4 (io), M10 IO4 (io), M11 IO4 (io), M12 IO4 (io), N5 IO4 (io), N6 IO4 (io), N7 IO4 (io), N8 IO4 (io), N9 IO4 (io), N10 IO4 (io), N11 IO4 (io), N12 IO4 (io), P4 IO4 (io), P5 IO4 (io), P6 IO4 (io), P7 IO4 (io), P8 IO4 (io), P9 IO4 (io), P10 IO4 (io), P11 IO4 (io), P12 IO4 (io), P13 IO4 (io), R1 IO4 (io), R3 IO4 (io), R4 IO4 (io), R5 IO4 (io), R6 IO4 (io), R7 IO4 (io), R8 IO4 (io), R9 IO4 (io), R10 IO4 (io), R11 IO4 (io), R12 IO4 (io), R13 IO4 (io), R14 IO4 (io), R16 IO4 (io), T2 IO4 (io), T3 VCCIO4, T4 IO4 (io), T5 IO4 (io), T6 IO4 (io), T7 IO4 (io), T8 IO4 (io), T9 IO4 (io), T10 IO4 (io), T11 IO4 (io), T12 IO4 (io), T13 IO4 (io), T14 VCCIO4, T15 IO4 (io)
part E pins: A1 GNDIO, A16 GNDIO, B2 GNDIO, B15 GNDIO, G7 GNDIO, G8 GNDIO, G9 GNDIO, G10 GNDIO, H7 GNDINT, H8 VCCINT(1.8V), H9 GNDINT, H10 VCCINT(1.8V), J7 VCCINT(1.8V), J8 GNDINT, J9 VCCINT(1.8V), J10 GNDINT, K7 GNDIO, K8 GNDIO, K9 GNDIO, K10 GNDIO, R2 GNDIO, R15 GNDIO, T1 GNDIO, T16 GNDIO